# Altium integrated library ST Logic Translator.IntLib: 3 symbols
Pins are listed as number, name and electrical type; pins without a type are passive.

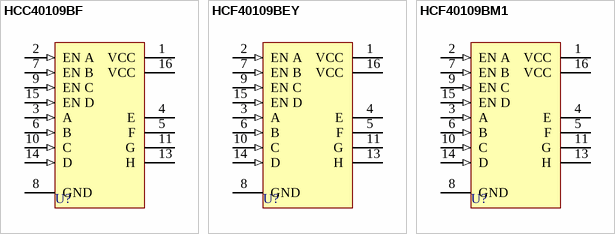
[diagram p0: symbols HCC40109BF to HCF40109BM1]

## HCC40109BF
designator U?
Quad Low-To-High Voltage Level Shifter; Published: 8-Jun-2000; LatestRevisionDate: 17-Jul-2002; LatestRevisionNote: Re-released for DXP Platform.; DatasheetDocument: Jun-1989; PackageDocument: Apr-1996; PackageReference: DIP16; Publisher: Altium Limited
footprint DIP16 (DIP; 16 Leads; Row Spacing 7.62 mm; Pitch 2.54 mm)
pins: 1 VCC (power), 2 EN A (in), 3 A (in), 4 E (hiz), 5 F (hiz), 6 B (in), 7 EN B (in), 8 GND (power), 9 EN C (in), 10 C (in), 11 G (hiz), 13 H (hiz), 14 D (in), 15 EN D (in), 16 VCC (power)

## HCF40109BEY
designator U?
Quad Low-To-High Voltage Level Shifter; Published: 8-Jun-2000; LatestRevisionDate: 17-Jul-2002; LatestRevisionNote: Re-released for DXP Platform.; DatasheetDocument: Jun-1989; PackageDocument: Apr-1996; PackageReference: DIP16; Publisher: Altium Limited
footprint DIP16 (DIP; 16 Leads; Row Spacing 7.62 mm; Pitch 2.54 mm)
pins: 1 VCC (power), 2 EN A (in), 3 A (in), 4 E (hiz), 5 F (hiz), 6 B (in), 7 EN B (in), 8 GND (power), 9 EN C (in), 10 C (in), 11 G (hiz), 13 H (hiz), 14 D (in), 15 EN D (in), 16 VCC (power)

## HCF40109BM1
designator U?
Quad Low-To-High Voltage Level Shifter; Published: 8-Jun-2000; LatestRevisionDate: 17-Jul-2002; LatestRevisionNote: Re-released for DXP Platform.; DatasheetDocument: Jun-1989; PackageDocument: May-1998; PackageReference: SO16; Publisher: Altium Limited
footprint SO16 (Small Outline; 16 Leads; Body Width 3.9 mm; Pitch 1.27 mm)
pins: 1 VCC (power), 2 EN A (in), 3 A (in), 4 E (hiz), 5 F (hiz), 6 B (in), 7 EN B (in), 8 GND (power), 9 EN C (in), 10 C (in), 11 G (hiz), 13 H (hiz), 14 D (in), 15 EN D (in), 16 VCC (power)